# Altium schematic symbol library Cypress_USB_UART_CY7C64225.SchLib: 1 symbol
Pins are listed as number, name and electrical type; pins without a type are passive.

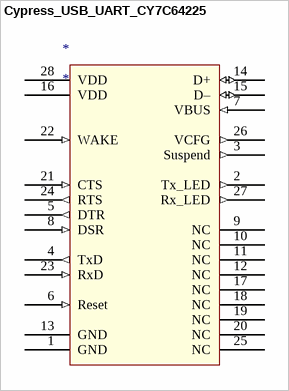
[diagram p0: symbol Cypress_USB_UART_CY7C64225]

## Cypress_USB_UART_CY7C64225
designator *
pins: 1 GND (power), 2 Tx_LED (out), 3 Suspend (out), 4 TxD (out), 5 DTR (out), 6 Reset (in), 7 VBUS (in), 8 DSR (in), 9 NC, 10 NC, 11 NC, 12 NC, 13 GND (power), 14 D+ (io), 15 D– (io), 16 VDD (power), 17 NC, 18 NC, 19 NC, 20 NC, 21 CTS (in), 22 WAKE (in), 23 RxD (in), 24 RTS (out), 25 NC, 26 VCFG (out), 27 Rx_LED (out), 28 VDD (power)